# Altium footprint library CAP_6TCE470MI.PcbLib: 1 footprints
Each footprint in its own frame and in the unit in brackets; x right, y up, seen from the top. Pads: shape width x height; smd on the part's side, far side on the other; paste and mask are expansions set on the pad; w line width, h text height; cw(c..) or ccw(c..) is an arc to the next point about the centre after c.
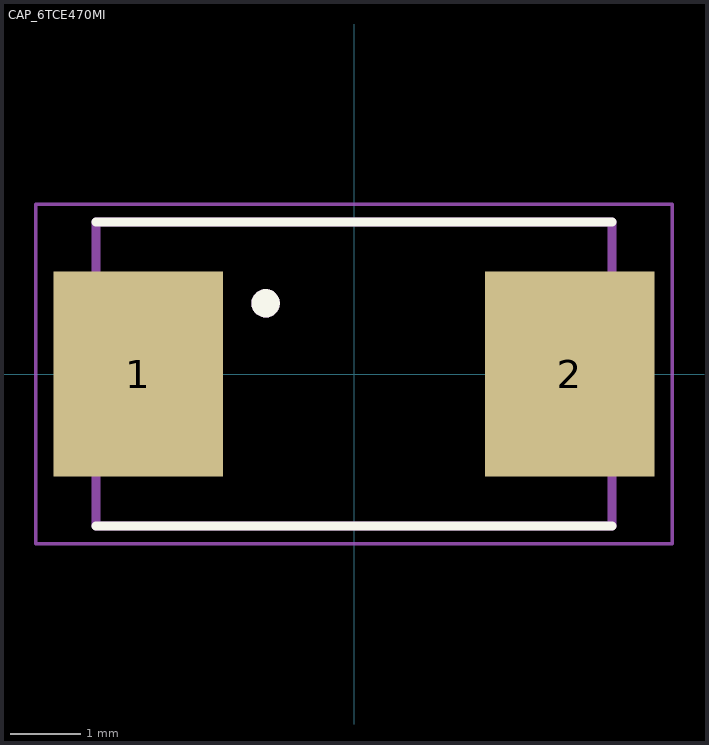
[diagram p0: the footprint, top view; thin cyan lines are the x and y axes]

## CAP_6TCE470MI [mm]
pads (2):
  rect 2.4x2.9 smd: 1(-3.05,0) 2(3.05,0)
Top Overlay:
  circle w0.2: c-1.25,1 r0.1
  lines w0.127: -3.65,-2.15 3.65,-2.15 ; -3.65,2.15 3.65,2.15
Assembly Top:
  circle w0.2: c-1.25,1 r0.1
  lines w0.127: -3.65,-2.15 3.65,-2.15 3.65,2.15 -3.65,2.15 -3.65,-2.15
Top Courtyard:
  lines w0.05: -4.5,-2.4 4.5,-2.4 4.5,2.4 -4.5,2.4 -4.5,-2.4
3D body "CAP_TANT_7343-31.step": height 3.1, standoff 0, extent -3.8,-2.3 3.8,2.3